# Altium footprint library CAP_SMD.PcbLib: 70 footprints (part 1 of 5)
Each footprint in its own frame and in the unit in brackets; x right, y up, seen from the top. Pads: shape width x height; smd on the part's side, far side on the other; paste and mask are expansions set on the pad; w line width, h text height; cw(c..) or ccw(c..) is an arc to the next point about the centre after c.
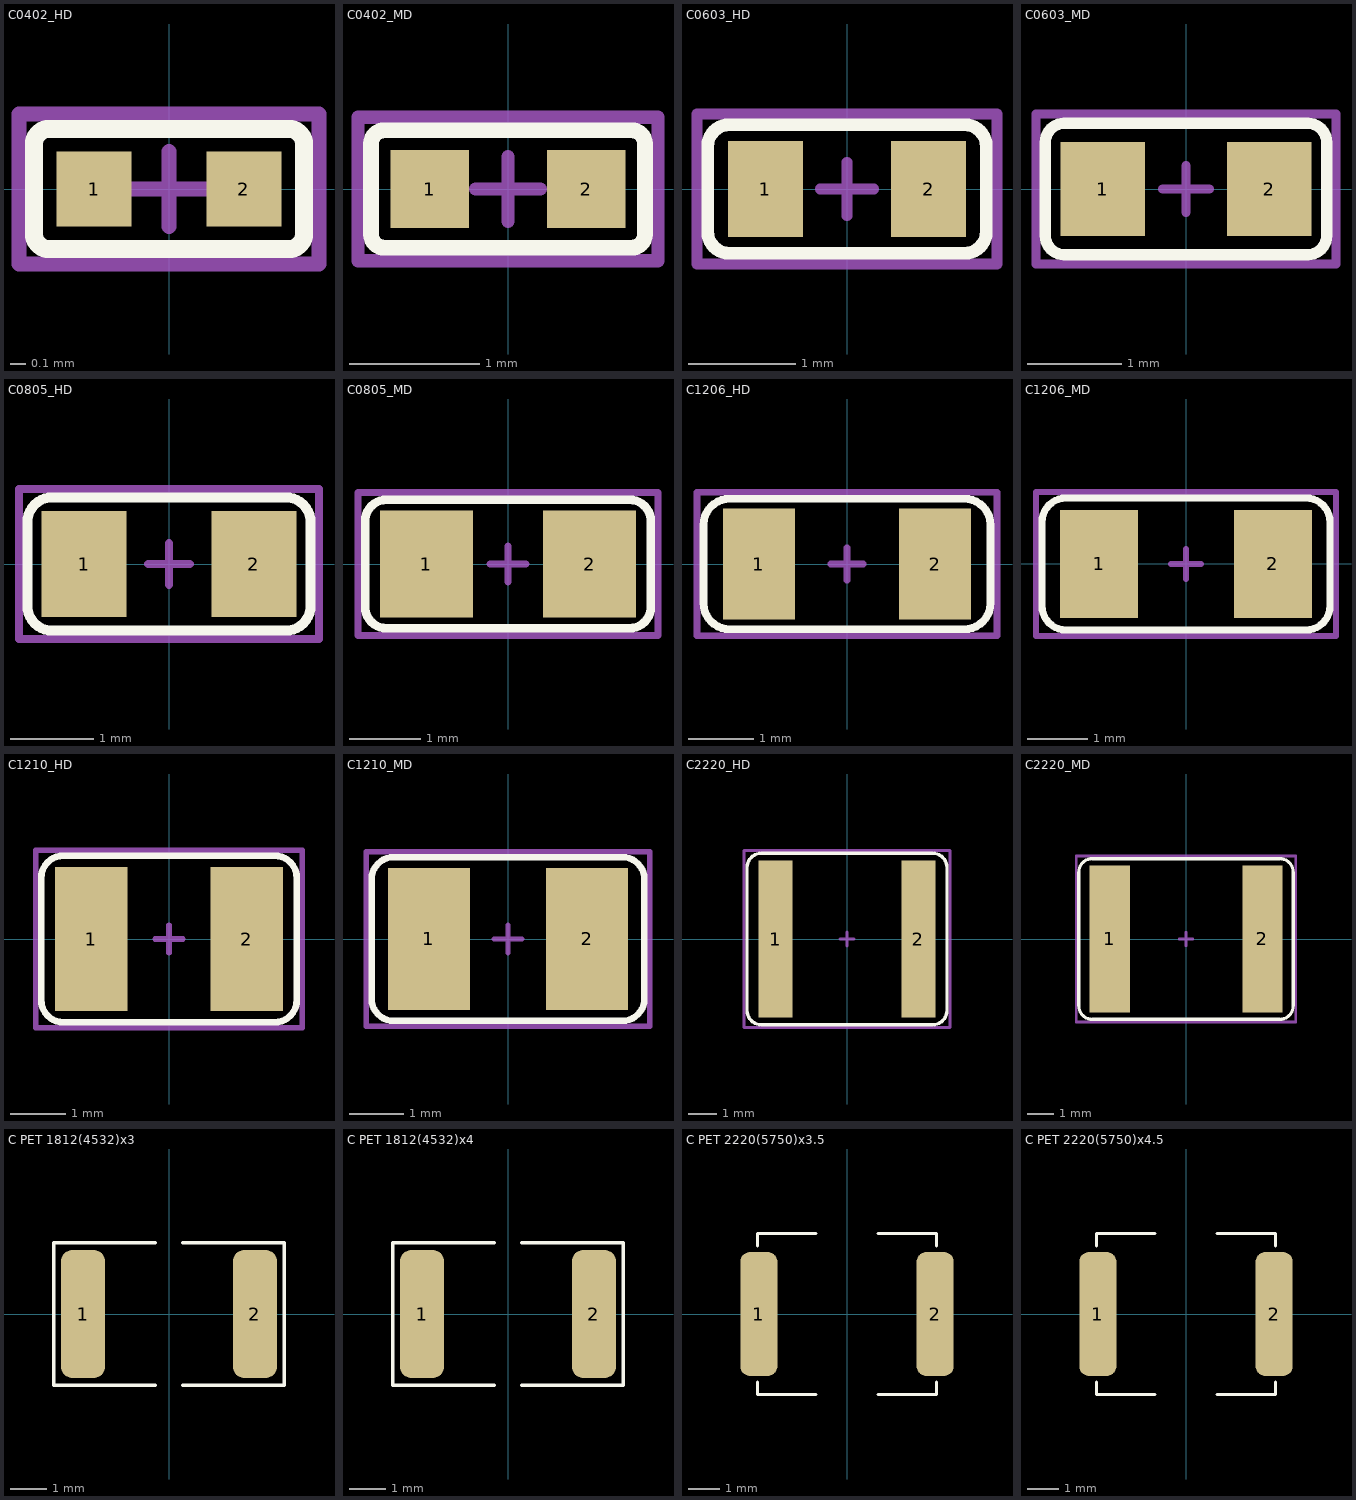
[diagram p0: the footprints below, top view; thin cyan lines are the x and y axes]

## C0402_HD [mm] "Chip Capacitor, Body 1.0x0.5mm, IPC High Density"
height 0.6
pads (2):
  rect 0.5x0.5 smd: 1(-0.5,0) 2(0.5,0)
Top Overlay:
  lines w0.12: -0.9,-0.3 ccw(c-0.8,-0.3) -0.8,-0.4 0.8,-0.4 ccw(c0.8,-0.3) 0.9,-0.3 0.9,0.3 ccw(c0.8,0.3) 0.8,0.4 -0.8,0.4 ccw(c-0.8,0.3) -0.9,0.3 -0.9,-0.3
Mechanical 15:
  lines w0.1: -0.25,0 0.25,0 ; 0,-0.25 0,0.25 ; -1,-0.5 -1,0.5 1,0.5 1,-0.5 -1,-0.5
3D body "C0402.step": height 0.51, standoff 0, extent -0.508,-0.254 0.508,0.254

## C0402_MD [mm] "Chip Capacitor, Body 1.0x0.5mm, IPC Medium Density"
height 0.6
pads (2):
  rect 0.6x0.6 smd: 1(-0.6,0) 2(0.6,0)
Top Overlay:
  lines w0.12: -1.05,-0.35 ccw(c-0.95,-0.35) -0.95,-0.45 0.95,-0.45 ccw(c0.95,-0.35) 1.05,-0.35 1.05,0.35 ccw(c0.95,0.35) 0.95,0.45 -0.95,0.45 ccw(c-0.95,0.35) -1.05,0.35 -1.05,-0.35
Mechanical 15:
  lines w0.1: -0.25,0 0.25,0 ; 0,-0.25 0,0.25 ; -1.15,-0.55 -1.15,0.55 1.15,0.55 1.15,-0.55 -1.15,-0.55
3D body "C0402.step": height 0.51, standoff 0, extent -0.508,-0.254 0.508,0.254

## C0603_HD [mm] "Chip Capacitor, Body 1.6x0.8mm, IPC High Density"
height 0.85
pads (2):
  rect 0.7x0.9 smd: 1(-0.762,0) 2(0.762,0)
Top Overlay:
  lines w0.12: -1.3,-0.4 ccw(c-1.1,-0.4) -1.1,-0.6 1.1,-0.6 ccw(c1.1,-0.4) 1.3,-0.4 1.3,0.4 ccw(c1.1,0.4) 1.1,0.6 -1.1,0.6 ccw(c-1.1,0.4) -1.3,0.4 -1.3,-0.4
Mechanical 15:
  lines w0.1: -0.25,0 0.25,0 ; 0,-0.25 0,0.25 ; -1.4,-0.7 1.4,-0.7 1.4,0.7 -1.4,0.7 -1.4,-0.7
3D body "C0603.step": height 0.79, standoff 0, extent -1,-0.381 1,0.406

## C0603_MD [mm] "Chip Capacitor, Body 1.6x0.8mm, IPC Medium Density"
height 0.85
pads (2):
  rect 0.9x1 smd: 1(-0.889,0) 2(0.889,0)
Top Overlay:
  lines w0.12: -1.5,-0.5 ccw(c-1.3,-0.5) -1.3,-0.7 1.3,-0.7 ccw(c1.3,-0.5) 1.5,-0.5 1.5,0.5 ccw(c1.3,0.5) 1.3,0.7 -1.3,0.7 ccw(c-1.3,0.5) -1.5,0.5 -1.5,-0.5
Mechanical 15:
  lines w0.1: -0.25,0 0.25,0 ; 0,-0.25 0,0.25 ; -1.6,-0.8 1.6,-0.8 1.6,0.8 -1.6,0.8 -1.6,-0.8
3D body "C0603.step": height 0.79, standoff 0, extent -1,-0.406 1,0.381

## C0805_HD [mil] "Chip Capacitor, Body 2.0x1.3mm, IPC High Density"
height 43.31
pads (2):
  rect 40x50 smd: 1(-40.15,0) 2(40.15,0)
Top Overlay:
  lines w4.72: -55.12,-31.5 cw(c-55.12,-19.68) -66.93,-19.68 -66.93,19.68 cw(c-55.12,19.68) -55.12,31.5 55.12,31.5 cw(c55.12,19.68) 66.93,19.68 66.93,-19.68 ; -55.12,-31.5 55.12,-31.5 ccw(c55.12,-19.68) 66.93,-19.69 ; -55.12,-31.5 -55.12,-31.5 ; 66.93,-19.68 66.93,-19.68
Mechanical 15:
  lines w3.94: -9.84,0 9.84,0 ; 0,-9.84 0,9.84 ; -70.87,-35.43 -70.87,35.43 70.87,35.43 70.87,-35.43 -70.87,-35.43
3D body "C0805.step": height 31.1, standoff 0, extent -49.37,-25 49.38,24

## C0805_MD [mm] "Chip Capacitor, Body 2.0x1.3mm, IPC Medium Density"
height 1.1
pads (2):
  rect 1.3x1.5 smd: 1(-1.143,0) 2(1.143,0)
Top Overlay:
  lines w0.12: -2,-0.6 ccw(c-1.7,-0.6) -1.7,-0.9 1.7,-0.9 ccw(c1.7,-0.6) 2,-0.6 2,0.6 ccw(c1.7,0.6) 1.7,0.9 -1.7,0.9 ccw(c-1.7,0.6) -2,0.6 -2,-0.6
Mechanical 15:
  lines w0.1: -0.25,0 0.25,0 ; 0,-0.25 0,0.25 ; -2.1,-1 -2.1,1 2.1,1 2.1,-1 -2.1,-1
3D body "C0805.step": height 0.79, standoff 0, extent -1.254,-0.61 1.254,0.635

## C1206_HD [mm] "Chip Capacitor, Body 3.2x1.6mm, IPC High Density"
height 1.35
pads (2):
  rect 1.1x1.7 smd: 1(-1.35,0) 2(1.35,0)
Top Overlay:
  lines w0.12: -2.2,-0.6 ccw(c-1.8,-0.6) -1.8,-1 1.8,-1 ccw(c1.8,-0.6) 2.2,-0.6 2.2,0.6 ccw(c1.8,0.6) 1.8,1 -1.8,1 ccw(c-1.8,0.6) -2.2,0.6 -2.2,-0.6
Mechanical 15:
  lines w0.1: -0.25,0 0.25,0 ; 0,-0.25 0,0.25 ; -2.3,-1.1 2.3,-1.1 2.3,1.1 -2.3,1.1 -2.3,-1.1
3D body "C1206.step": height 1.53, standoff 0, extent -2,-0.813 2,0.788

## C1206_MD [mm] "Chip Capacitor, Body 3.2x1.6mm, IPC Medium Density"
height 1.35
pads (2):
  rect 1.3x1.8 smd: 1(-1.45,0) 2(1.45,0)
Top Overlay:
  lines w0.12: -2.4,-0.7 ccw(c-2,-0.7) -2,-1.1 2,-1.1 ccw(c2,-0.7) 2.4,-0.7 2.4,0.7 ccw(c2,0.7) 2,1.1 -2,1.1 ccw(c-2,0.7) -2.4,0.7 -2.4,-0.7
Mechanical 15:
  lines w0.1: -0.25,0 0.25,0 ; 0,-0.25 0,0.25 ; -2.5,-1.2 -2.5,1.2 2.5,1.2 2.5,-1.2 -2.5,-1.2
3D body "C1206.step": height 1.53, standoff 0, extent -2,-0.813 2,0.788

## C1210_HD [mm] "Chip Capacitor, Body 3.2x2,5mm, IPC Medium Density"
pads (2):
  rect 1.3x2.6 smd: 1(-1.4,0) 2(1.4,0)
Top Overlay:
  lines w0.12: -2.3,-1.1 ccw(c-1.9,-1.1) -1.9,-1.5 1.9,-1.5 ccw(c1.9,-1.1) 2.3,-1.1 2.3,1.1 ccw(c1.9,1.1) 1.9,1.5 -1.9,1.5 ccw(c-1.9,1.1) -2.3,1.1 -2.3,-1.1
Mechanical 15:
  lines w0.1: -0.25,0 0.25,0 ; 0,-0.25 0,0.25 ; -2.4,-1.6 2.4,-1.6 2.4,1.6 -2.4,1.6 -2.4,-1.6
3D body "C1210.STEP": height 1.7, standoff 0, extent -2,-1.244 2,1.245

## C1210_MD [mm] "Chip Capacitor, Body 3.2x2,5mm, IPC Medium Density"
pads (2):
  rect 1.5x2.6 smd: 1(-1.45,0) 2(1.45,0)
Top Overlay:
  lines w0.12: -2.5,-1.1 ccw(c-2.1,-1.1) -2.1,-1.5 2.1,-1.5 ccw(c2.1,-1.1) 2.5,-1.1 2.5,1.1 ccw(c2.1,1.1) 2.1,1.5 -2.1,1.5 ccw(c-2.1,1.1) -2.5,1.1 -2.5,-1.1
Mechanical 15:
  lines w0.1: -0.25,0 0.25,0 ; 0,-0.25 0,0.25 ; -2.6,-1.6 -2.6,1.6 2.6,1.6 2.6,-1.6 -2.6,-1.6
3D body "C1210.STEP": height 1.7, standoff 0, extent -2,-1.244 2,1.245

## C2220_HD [mm]
pads (2):
  rect 1.2x5.5 smd: 1(-2.5,0) 2(2.5,0)
Top Overlay:
  lines w0.12: -3.5,-2.5 ccw(c-3,-2.5) -3,-3 3,-3 ccw(c3,-2.5) 3.5,-2.5 3.5,2.5 ccw(c3,2.5) 3,3 -3,3 ccw(c-3,2.5) -3.5,2.5 -3.5,-2.5
Mechanical 15:
  lines w0.1: -0.25,0 0.25,0 ; 0,-0.25 0,0.25 ; -3.6,-3.1 3.6,-3.1 3.6,3.1 -3.6,3.1 -3.6,-3.1
3D body "C2220.STEP": height 1.46, standoff 0, extent -2.8,-2.5 2.8,2.5

## C2220_MD [mm]
pads (2):
  rect 1.5x5.5 smd: 1(-2.85,0) 2(2.85,0)
Top Overlay:
  lines w0.12: -4,-2.5 ccw(c-3.5,-2.5) -3.5,-3 3.5,-3 ccw(c3.5,-2.5) 4,-2.5 4,2.5 ccw(c3.5,2.5) 3.5,3 -3.5,3 ccw(c-3.5,2.5) -4,2.5 -4,-2.5
Mechanical 15:
  lines w0.1: -0.25,0 0.25,0 ; 0,-0.25 0,0.25 ; -4.1,-3.1 4.1,-3.1 4.1,3.1 -4.1,3.1 -4.1,-3.1
3D body "C2220.STEP": height 1.46, standoff 0, extent -2.8,-2.5 2.8,2.5

## C PET 1812(4532)x3 [mm]
height 3
pads (2):
  rrect50% 1.2x3.5 smd: 1(-2.35,0) 2(2.35,0)
Top Overlay:
  lines w0.1: -0.375,-1.95 -3.15,-1.95 -3.15,1.95 -0.375,1.95 ; 0.375,-1.95 3.15,-1.95 3.15,1.95 0.375,1.95
3D body "Cap 1812x3.0.STEP": height 3, standoff 0, extent -2.4,-1.65 2.4,1.65

## C PET 1812(4532)x4 [mm]
height 4
pads (2):
  rrect50% 1.2x3.5 smd: 1(-2.35,0) 2(2.35,0)
Top Overlay:
  lines w0.1: -0.375,-1.95 -3.15,-1.95 -3.15,1.95 -0.375,1.95 ; 0.375,-1.95 3.15,-1.95 3.15,1.95 0.375,1.95
3D body "Cap 1812x4.0.STEP": height 4, standoff 0, extent -2.4,-1.65 2.4,1.65

## C PET 2220(5750)x3.5 [mm]
height 3.5
pads (2):
  rrect50% 1.2x4 smd: 1(-2.85,0) 2(2.85,0)
Top Overlay:
  lines w0.1: -2.9,-2.2 -2.9,-2.6 -1,-2.6 ; -2.9,2.2 -2.9,2.6 -1,2.6 ; 1,-2.6 2.9,-2.6 2.9,-2.2 ; 1,2.6 2.9,2.6 2.9,2.2
3D body "Cap 2220x3.5.STEP": height 3.5, standoff 0, extent -2.85,-2.55 2.85,2.55

## C PET 2220(5750)x4.5 [mm]
height 4.5
pads (2):
  rrect50% 1.2x4 smd: 1(-2.85,0) 2(2.85,0)
Top Overlay:
  lines w0.1: -2.9,-2.2 -2.9,-2.6 -1,-2.6 ; -2.9,2.2 -2.9,2.6 -1,2.6 ; 1,-2.6 2.9,-2.6 2.9,-2.2 ; 1,2.6 2.9,2.6 2.9,2.2
3D body "Cap 2220x4.5.STEP": height 4.5, standoff 0, extent -2.85,-2.55 2.85,2.55